# EAGLE library part LM339 (library Linus Eagle Library)
Quad Comparator - LM339PWR Based on information from the SLCS006N datasheet from TI (www.ti.com). Created by nick@scantool.net, 2008. Updated 2016. SparkFun Products SparkFun OBD-II UART <https://www.sparkfun.com/products/9555> (WIG-09555) SparkFun Car Diagnostics Kit <https://www.sparkfun.com/products/10769> (RTL-10769)
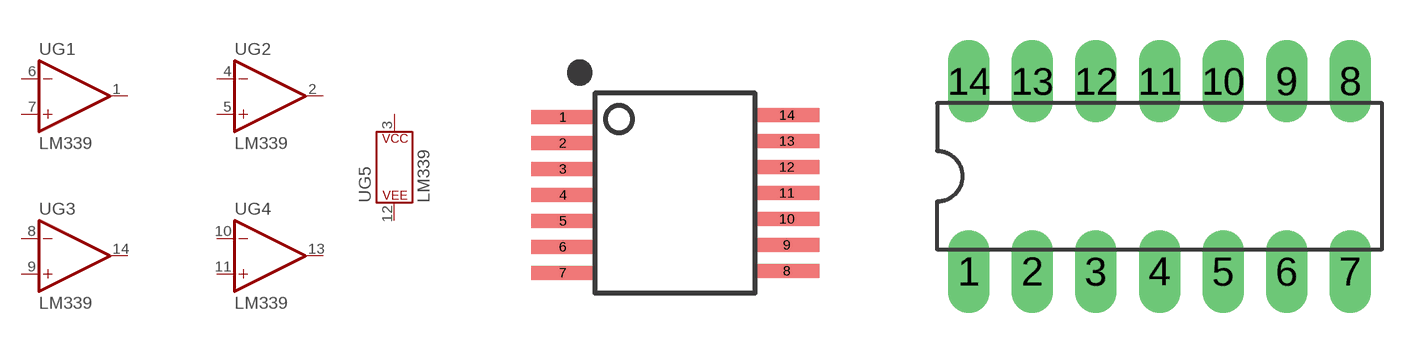
[diagram p5: symbol with the pads of TSSOP-14; footprints TSSOP-14, DIL14]

Designator prefix U; gates G1=OP-AMP G2=OP-AMP G3=OP-AMP G4=OP-AMP G5=POWER_CONSORT

## LM339 (PROD_ID: IC-09990; VALUE: LM339PWR)  [TSSOP-14]
1  G1:OUT  out
2  G2:OUT  out
3  G5:P$V+
4  G2:-IN  in
5  G2:+IN  in
6  G1:-IN  in
7  G1:+IN  in
8  G3:-IN  in
9  G3:+IN  in
10  G4:-IN  in
11  G4:+IN  in
12  G5:P$V-
13  G4:OUT  out
14  G3:OUT  out

## LM339DIP  [DIL14]
1  G2:OUT  out
2  G1:OUT  out
3  G5:P$V+
4  G1:-IN  in
5  G1:+IN  in
6  G2:-IN  in
7  G2:+IN  in
8  G3:-IN  in
9  G3:+IN  in
10  G4:-IN  in
11  G4:+IN  in
12  G5:P$V-
13  G4:OUT  out
14  G3:OUT  out

## Footprint TSSOP-14 (pad centres in mm)
smd 1.6 x 0.35: 1 -2.8,1.9; 2 -2.8,1.25; 3 -2.8,0.6; 4 -2.8,-0.05; 5 -2.8,-0.7; 6 -2.8,-1.35; 7 -2.8,-2; 8 2.8,-1.95; 9 2.8,-1.3; 10 2.8,-0.65; 11 2.8,0; 12 2.8,0.65; 13 2.8,1.3; 14 2.8,1.95

## Footprint DIL14 (pad centres in mm)
Dual In Line Package
drill 1.016 pad 1.651 long: 1 -7.62,-3.81; 2 -5.08,-3.81; 3 -2.54,-3.81; 4 0,-3.81; 5 2.54,-3.81; 6 5.08,-3.81; 7 7.62,-3.81; 8 7.62,3.81; 9 5.08,3.81; 10 2.54,3.81; 11 0,3.81; 12 -2.54,3.81; 13 -5.08,3.81; 14 -7.62,3.81